# EAGLE library part MCP1501 (library tomasz_lewicki_components)
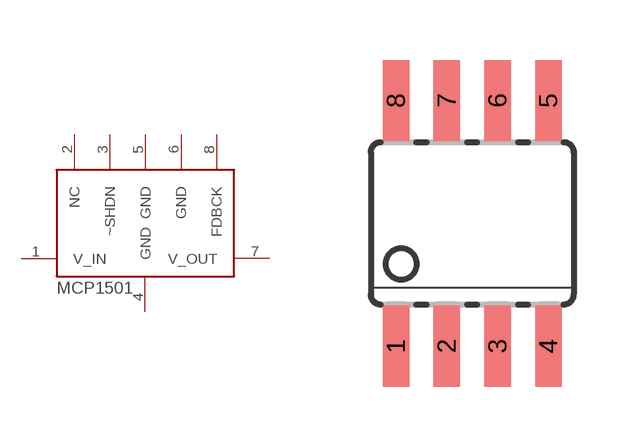
[diagram p0: symbol with the pads of SOIC08; footprint SOIC08]

Designator prefix -

## MCP1501  [SOIC08]
1  V_IN
2  NC
3  ~SHDN
4  GND
5  GND
6  GND
7  V_OUT
8  FDBCK

## Footprint SOIC08 (pad centres in mm)
Small Outline Package
smd 0.66 x 2.032: 1 -1.905,-3.073; 2 -0.635,-3.073; 3 0.635,-3.073; 4 1.905,-3.073; 5 1.905,3.073; 6 0.635,3.073; 7 -0.635,3.073; 8 -1.905,3.073